# EAGLE library part LM324 (library LM324)
these devices consist of four independent high-gain frequency-compensated operational amplifiers that are designed sp... Check availability <https://pricing.snapeda.com/parts/LM324../Intersil/view-part?ref=eda>
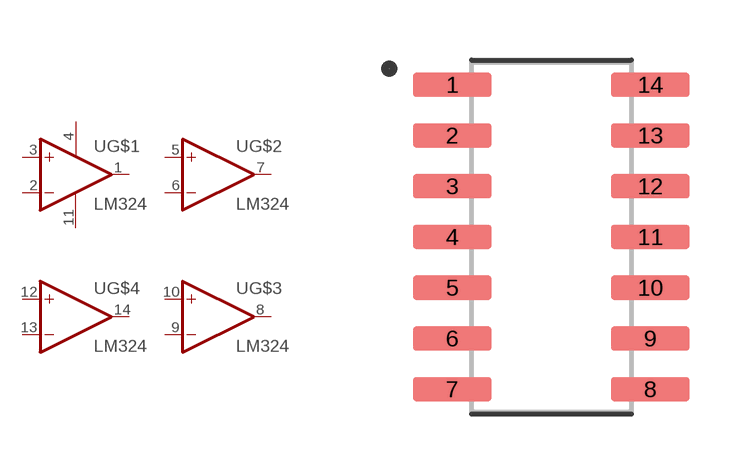
[diagram p0: symbol with the pads of SOIC127P600X175-14N; footprint SOIC127P600X175-14N]

Designator prefix U; gates G$1=LM324_SECTION1 G$2=LM324_SECTION2 G$3=LM324_SECTION3 G$4=LM324_SECTION4

## LM324 (Availability: Not in stock; Check_prices: https://www.snapeda.com/parts/LM324../Intersil/view-part/?ref=eda; Description: Op Amp Quad Low Voltage Amplifier ±2.75V/5.5V 14-Pin SOIC T/R; MF: Intersil; MP: LM324..; Package: None; Price: None; SnapEDA_Link: https://www.snapeda.com/parts/LM324../Intersil/view-part/?ref=snap)  [SOIC127P600X175-14N]
1  G$1:OUTPUT1  out
2  G$1:INVERTING_INPUT1  in
3  G$1:NON-INVERTING_INPUT1  in
4  G$1:VCC+  pwr
5  G$2:NON-INVERTING_INPUT2  in
6  G$2:INVERTING_INPUT2  in
7  G$2:OUTPUT2  out
8  G$3:OUTPUT3  out
9  G$3:INVERTING_INPUT3  in
10  G$3:NON-INVERTING_INPUT3  in
11  G$1:VCC-  pwr
12  G$4:NON-INVERTING_INPUT4  in
13  G$4:INVERTING_INPUT4  in
14  G$4:OUTPUT4  out

## Footprint SOIC127P600X175-14N (pad centres in mm)
smd 1.97 x 0.6: 1 -2.475,3.81; 2 -2.475,2.54; 3 -2.475,1.27; 4 -2.475,0; 5 -2.475,-1.27; 6 -2.475,-2.54; 7 -2.475,-3.81; 8 2.475,-3.81; 9 2.475,-2.54; 10 2.475,-1.27; 11 2.475,0; 12 2.475,1.27; 13 2.475,2.54; 14 2.475,3.81